# EAGLE library part SIM800L_V1 (library FansElectronics-Modul)
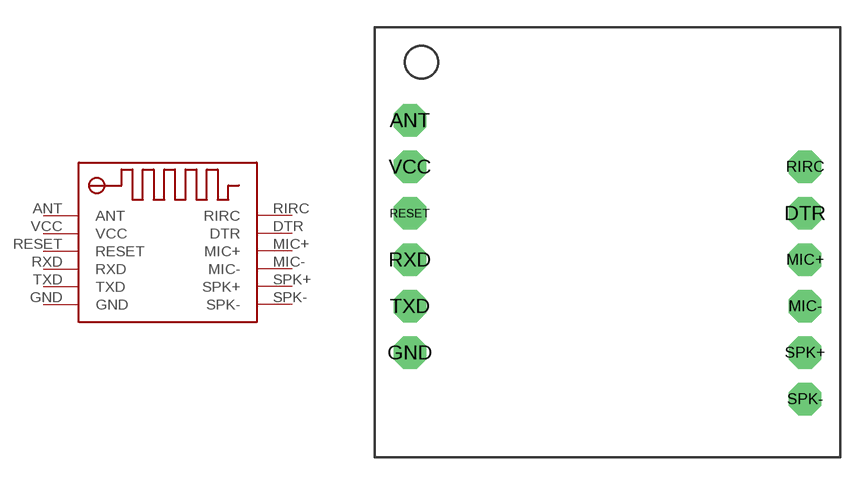
[diagram p6: symbol with the pads of SIM800L-V1; footprint SIM800L-V1]

Designator prefix MOD

## SIM800L_V1  [SIM800L-V1]
ANT  ANT
DTR  DTR
GND  GND
MIC+  MIC+
MIC-  MIC-
RESET  RESET
RIRC  RIRC
RXD  RXD
SPK+  SPK+
SPK-  SPK-
TXD  TXD
VCC  VCC

## Footprint SIM800L-V1 (pad centres in mm)
drill 0.9 pad 1.778 octagon: ANT -10.16,7.62; DTR 11.43,2.54; GND -10.16,-5.08; MIC+ 11.43,0; MIC- 11.43,-2.54; RESET -10.16,2.54; RIRC 11.43,5.08; RXD -10.16,0; SPK+ 11.43,-5.08; SPK- 11.43,-7.62; TXD -10.16,-2.54; VCC -10.16,5.08